# Altium schematic symbol library MFL STETH ANTENNA.Schlib: 1 symbol
Pins are listed as number, name and electrical type; pins without a type are passive.

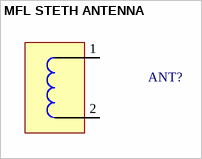
[diagram p0: symbol MFL STETH ANTENNA]

## MFL STETH ANTENNA
designator ANT?
pins: 1, 2
1 alternate drawing of the same symbol